# Altium schematic symbol library valve-drive-module.Schlib: 1 symbol
Pins are listed as number, name and electrical type; pins without a type are passive.

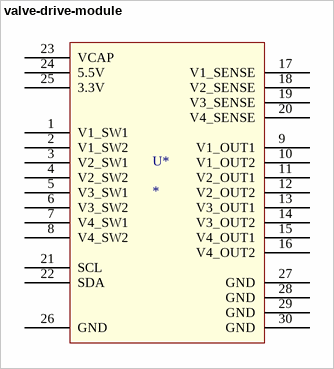
[diagram p0: symbol valve-drive-module]

## valve-drive-module
designator U*
footprint valve-drive-module
pins: 1 V1_SW1, 2 V1_SW2, 3 V2_SW1, 4 V2_SW2, 5 V3_SW1, 6 V3_SW2, 7 V4_SW1, 8 V4_SW2, 9 V1_OUT1, 10 V1_OUT2, 11 V2_OUT1, 12 V2_OUT2, 13 V3_OUT1, 14 V3_OUT2, 15 V4_OUT1, 16 V4_OUT2, 17 V1_SENSE, 18 V2_SENSE, 19 V3_SENSE, 20 V4_SENSE, 21 SCL, 22 SDA, 23 VCAP, 24 5.5V, 25 3.3V, 26 GND, 27 GND, 28 GND, 29 GND, 30 GND